# Altium integrated library Actel IGLOO.IntLib: 429 symbols (part 18 of 47)
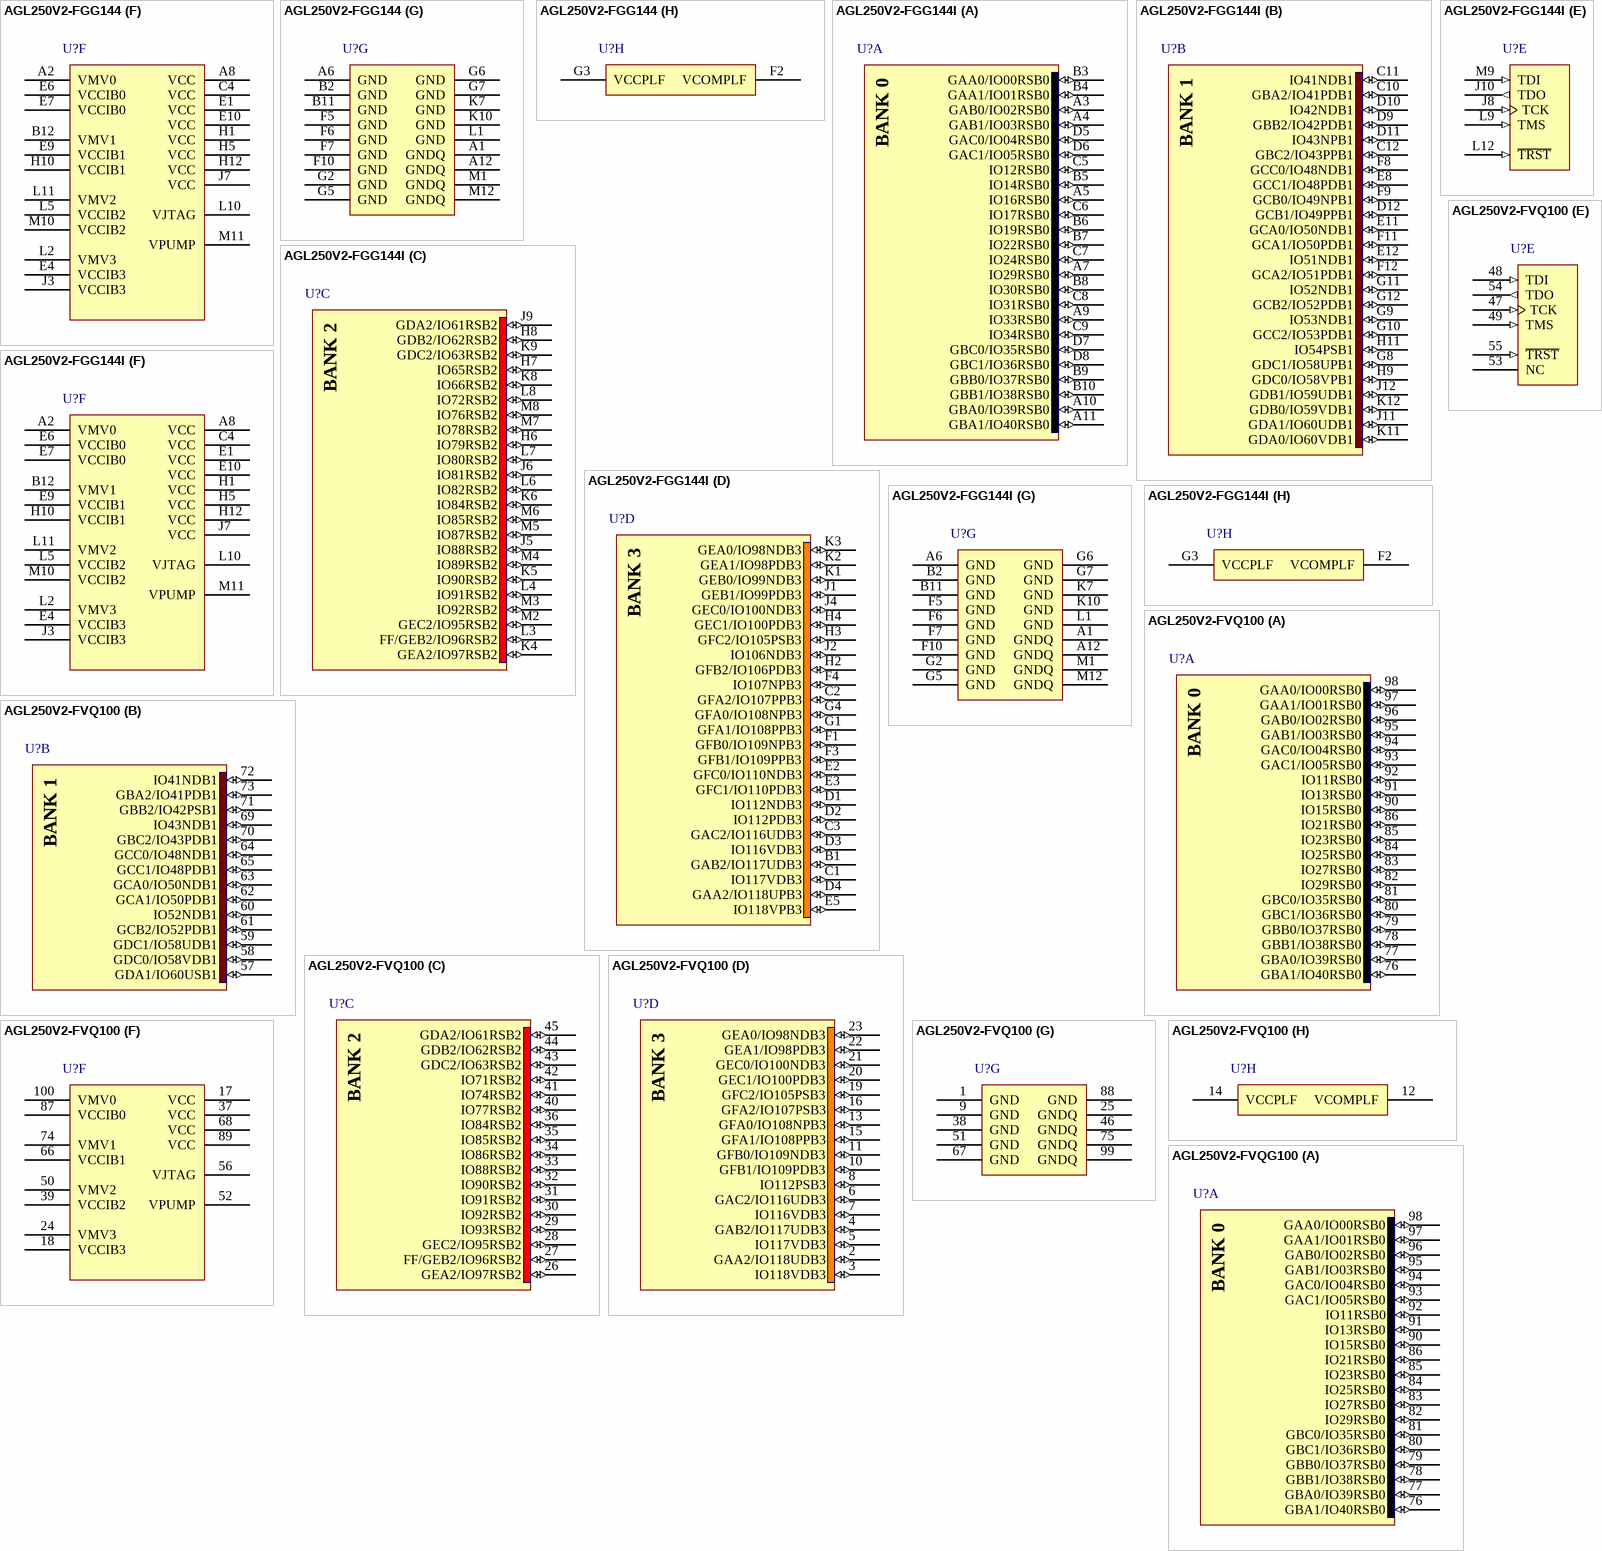
[diagram p365: symbols AGL250V2-FGG144 to AGL250V2-FVQG100]

## AGL250V2-FGG144
designator U?
IGLOO Low-Power Flash 1.2/1.5V FPGA with Flash*Freeze, 97 User IOs, 250K System Gates, 36Kbits RAM, 1Kbit Flash ROM, 1 PLL, 144-Pin FBGA, Commercial Grade, Pb-Free; Published: 14-Mar-2008; LatestRevisionDate: 11-Dec-2009; LatestRevisionNote: Updated to datasheet version 2.0 Nov-2009.; DatasheetVersion: v2.0, Nov-2009; PackageVersion: ver11.2, Nov-2009; PackageReference: FG144; Publisher: Altium Limited; PackageDescription: 144-Ball Fine Pitch Plastic Ball Grid Array (FG144); Code_JEDEC: MO-192-DAD-1; ComponentLink1Description: IGLOO Datasheet; ComponentLink1URL: http://www.actel.com/documents/IGLOO_DS.pdf; ComponentLink2Description: Package Mechanical Drawings; ComponentLink2URL: http://www.actel.com/documents/PckgMechDrwngs.pdf; ComponentLink3Description: IGLOO Documents; ComponentLink3URL: http://www.actel.com/products/igloo/docs.aspx; ComponentLink4Description: Actel.com Home; ComponentLink4URL: http://www.actel.com/
footprint FG144 (BGA, 144-Leads, Body 13x13mm, Pitch 1mm)
signal-integrity model AGL250-FG144 (IGLOO)
part A pins: A3 GAB0/IO02RSB0 (io), A4 GAB1/IO03RSB0 (io), A5 IO16RSB0 (io), A7 IO29RSB0 (io), A9 IO33RSB0 (io), A10 GBA0/IO39RSB0 (io), A11 GBA1/IO40RSB0 (io), B3 GAA0/IO00RSB0 (io), B4 GAA1/IO01RSB0 (io), B5 IO14RSB0 (io), B6 IO19RSB0 (io), B7 IO22RSB0 (io), B8 IO30RSB0 (io), B9 GBB0/IO37RSB0 (io), B10 GBB1/IO38RSB0 (io), C5 IO12RSB0 (io), C6 IO17RSB0 (io), C7 IO24RSB0 (io), C8 IO31RSB0 (io), C9 IO34RSB0 (io), D5 GAC0/IO04RSB0 (io), D6 GAC1/IO05RSB0 (io), D7 GBC0/IO35RSB0 (io), D8 GBC1/IO36RSB0 (io)
part B pins: C10 GBA2/IO41PDB1 (io), C11 IO41NDB1 (io), C12 GBC2/IO43PPB1 (io), D9 GBB2/IO42PDB1 (io), D10 IO42NDB1 (io), D11 IO43NPB1 (io), D12 GCB1/IO49PPB1 (io), E8 GCC1/IO48PDB1 (io), E11 GCA0/IO50NDB1 (io), E12 IO51NDB1 (io), F8 GCC0/IO48NDB1 (io), F9 GCB0/IO49NPB1 (io), F11 GCA1/IO50PDB1 (io), F12 GCA2/IO51PDB1 (io), G8 GDC1/IO58UPB1 (io), G9 IO53NDB1 (io), G10 GCC2/IO53PDB1 (io), G11 IO52NDB1 (io), G12 GCB2/IO52PDB1 (io), H9 GDC0/IO58VPB1 (io), H11 IO54PSB1 (io), J11 GDA1/IO60UDB1 (io), J12 GDB1/IO59UDB1 (io), K11 GDA0/IO60VDB1 (io), K12 GDB0/IO59VDB1 (io)
part C pins: H6 IO79RSB2 (io), H7 IO65RSB2 (io), H8 GDB2/IO62RSB2 (io), J5 IO88RSB2 (io), J6 IO81RSB2 (io), J9 GDA2/IO61RSB2 (io), K4 GEA2/IO97RSB2 (io), K5 IO90RSB2 (io), K6 IO84RSB2 (io), K8 IO66RSB2 (io), K9 GDC2/IO63RSB2 (io), L3 FF/GEB2/IO96RSB2 (io), L4 IO91RSB2 (io), L6 IO82RSB2 (io), L7 IO80RSB2 (io), L8 IO72RSB2 (io), M2 GEC2/IO95RSB2 (io), M3 IO92RSB2 (io), M4 IO89RSB2 (io), M5 IO87RSB2 (io), M6 IO85RSB2 (io), M7 IO78RSB2 (io), M8 IO76RSB2 (io)
part D pins: B1 GAB2/IO117UDB3 (io), C1 IO117VDB3 (io), C2 GFA2/IO107PPB3 (io), C3 GAC2/IO116UDB3 (io), D1 IO112NDB3 (io), D2 IO112PDB3 (io), D3 IO116VDB3 (io), D4 GAA2/IO118UPB3 (io), E2 GFC0/IO110NDB3 (io), E3 GFC1/IO110PDB3 (io), E5 IO118VPB3 (io), F1 GFB0/IO109NPB3 (io), F3 GFB1/IO109PPB3 (io), F4 IO107NPB3 (io), G1 GFA1/IO108PPB3 (io), G4 GFA0/IO108NPB3 (io), H2 GFB2/IO106PDB3 (io), H3 GFC2/IO105PSB3 (io), H4 GEC1/IO100PDB3 (io), J1 GEB1/IO99PDB3 (io), J2 IO106NDB3 (io), J4 GEC0/IO100NDB3 (io), K1 GEB0/IO99NDB3 (io), K2 GEA1/IO98PDB3 (io), K3 GEA0/IO98NDB3 (io)
part E pins: J8 TCK (in), J10 TDO (out), L9 TMS (in), L12 ~{TRST} (in), M9 TDI (in)
part F pins: A2 VMV0 (power), A8 VCC (power), B12 VMV1 (power), C4 VCC (power), E1 VCC (power), E4 VCCIB3 (power), E6 VCCIB0 (power), E7 VCCIB0 (power), E9 VCCIB1 (power), E10 VCC (power), H1 VCC (power), H5 VCC (power), H10 VCCIB1 (power), H12 VCC (power), J3 VCCIB3 (power), J7 VCC (power), L2 VMV3 (power), L5 VCCIB2 (power), L10 VJTAG (power), L11 VMV2 (power), M10 VCCIB2 (power), M11 VPUMP (power)
part G pins: A1 GNDQ (power), A6 GND (power), A12 GNDQ (power), B2 GND (power), B11 GND (power), F5 GND (power), F6 GND (power), F7 GND (power), F10 GND (power), G2 GND (power), G5 GND (power), G6 GND (power), G7 GND (power), K7 GND (power), K10 GND (power), L1 GND (power), M1 GNDQ (power), M12 GNDQ (power)
part H pins: F2 VCOMPLF (power), G3 VCCPLF (power)
part A text: BANK 0
part B text: BANK 1
part C text: BANK 2
part D text: BANK 3

## AGL250V2-FGG144I
designator U?
IGLOO Low-Power Flash 1.2/1.5V FPGA with Flash*Freeze, 97 User IOs, 250K System Gates, 36Kbits RAM, 1Kbit Flash ROM, 1 PLL, 144-Pin FBGA, Industrial Grade, Pb-Free; Published: 14-Mar-2008; LatestRevisionDate: 11-Dec-2009; LatestRevisionNote: Updated to datasheet version 2.0 Nov-2009.; DatasheetVersion: v2.0, Nov-2009; PackageVersion: ver11.2, Nov-2009; PackageReference: FG144; Publisher: Altium Limited; PackageDescription: 144-Ball Fine Pitch Plastic Ball Grid Array (FG144); Code_JEDEC: MO-192-DAD-1; ComponentLink1Description: IGLOO Datasheet; ComponentLink1URL: http://www.actel.com/documents/IGLOO_DS.pdf; ComponentLink2Description: Package Mechanical Drawings; ComponentLink2URL: http://www.actel.com/documents/PckgMechDrwngs.pdf; ComponentLink3Description: IGLOO Documents; ComponentLink3URL: http://www.actel.com/products/igloo/docs.aspx; ComponentLink4Description: Actel.com Home; ComponentLink4URL: http://www.actel.com/
footprint FG144 (BGA, 144-Leads, Body 13x13mm, Pitch 1mm)
signal-integrity model AGL250-FG144 (IGLOO)
part A pins: A3 GAB0/IO02RSB0 (io), A4 GAB1/IO03RSB0 (io), A5 IO16RSB0 (io), A7 IO29RSB0 (io), A9 IO33RSB0 (io), A10 GBA0/IO39RSB0 (io), A11 GBA1/IO40RSB0 (io), B3 GAA0/IO00RSB0 (io), B4 GAA1/IO01RSB0 (io), B5 IO14RSB0 (io), B6 IO19RSB0 (io), B7 IO22RSB0 (io), B8 IO30RSB0 (io), B9 GBB0/IO37RSB0 (io), B10 GBB1/IO38RSB0 (io), C5 IO12RSB0 (io), C6 IO17RSB0 (io), C7 IO24RSB0 (io), C8 IO31RSB0 (io), C9 IO34RSB0 (io), D5 GAC0/IO04RSB0 (io), D6 GAC1/IO05RSB0 (io), D7 GBC0/IO35RSB0 (io), D8 GBC1/IO36RSB0 (io)
part B pins: C10 GBA2/IO41PDB1 (io), C11 IO41NDB1 (io), C12 GBC2/IO43PPB1 (io), D9 GBB2/IO42PDB1 (io), D10 IO42NDB1 (io), D11 IO43NPB1 (io), D12 GCB1/IO49PPB1 (io), E8 GCC1/IO48PDB1 (io), E11 GCA0/IO50NDB1 (io), E12 IO51NDB1 (io), F8 GCC0/IO48NDB1 (io), F9 GCB0/IO49NPB1 (io), F11 GCA1/IO50PDB1 (io), F12 GCA2/IO51PDB1 (io), G8 GDC1/IO58UPB1 (io), G9 IO53NDB1 (io), G10 GCC2/IO53PDB1 (io), G11 IO52NDB1 (io), G12 GCB2/IO52PDB1 (io), H9 GDC0/IO58VPB1 (io), H11 IO54PSB1 (io), J11 GDA1/IO60UDB1 (io), J12 GDB1/IO59UDB1 (io), K11 GDA0/IO60VDB1 (io), K12 GDB0/IO59VDB1 (io)
part C pins: H6 IO79RSB2 (io), H7 IO65RSB2 (io), H8 GDB2/IO62RSB2 (io), J5 IO88RSB2 (io), J6 IO81RSB2 (io), J9 GDA2/IO61RSB2 (io), K4 GEA2/IO97RSB2 (io), K5 IO90RSB2 (io), K6 IO84RSB2 (io), K8 IO66RSB2 (io), K9 GDC2/IO63RSB2 (io), L3 FF/GEB2/IO96RSB2 (io), L4 IO91RSB2 (io), L6 IO82RSB2 (io), L7 IO80RSB2 (io), L8 IO72RSB2 (io), M2 GEC2/IO95RSB2 (io), M3 IO92RSB2 (io), M4 IO89RSB2 (io), M5 IO87RSB2 (io), M6 IO85RSB2 (io), M7 IO78RSB2 (io), M8 IO76RSB2 (io)
part D pins: B1 GAB2/IO117UDB3 (io), C1 IO117VDB3 (io), C2 GFA2/IO107PPB3 (io), C3 GAC2/IO116UDB3 (io), D1 IO112NDB3 (io), D2 IO112PDB3 (io), D3 IO116VDB3 (io), D4 GAA2/IO118UPB3 (io), E2 GFC0/IO110NDB3 (io), E3 GFC1/IO110PDB3 (io), E5 IO118VPB3 (io), F1 GFB0/IO109NPB3 (io), F3 GFB1/IO109PPB3 (io), F4 IO107NPB3 (io), G1 GFA1/IO108PPB3 (io), G4 GFA0/IO108NPB3 (io), H2 GFB2/IO106PDB3 (io), H3 GFC2/IO105PSB3 (io), H4 GEC1/IO100PDB3 (io), J1 GEB1/IO99PDB3 (io), J2 IO106NDB3 (io), J4 GEC0/IO100NDB3 (io), K1 GEB0/IO99NDB3 (io), K2 GEA1/IO98PDB3 (io), K3 GEA0/IO98NDB3 (io)
part E pins: J8 TCK (in), J10 TDO (out), L9 TMS (in), L12 ~{TRST} (in), M9 TDI (in)
part F pins: A2 VMV0 (power), A8 VCC (power), B12 VMV1 (power), C4 VCC (power), E1 VCC (power), E4 VCCIB3 (power), E6 VCCIB0 (power), E7 VCCIB0 (power), E9 VCCIB1 (power), E10 VCC (power), H1 VCC (power), H5 VCC (power), H10 VCCIB1 (power), H12 VCC (power), J3 VCCIB3 (power), J7 VCC (power), L2 VMV3 (power), L5 VCCIB2 (power), L10 VJTAG (power), L11 VMV2 (power), M10 VCCIB2 (power), M11 VPUMP (power)
part G pins: A1 GNDQ (power), A6 GND (power), A12 GNDQ (power), B2 GND (power), B11 GND (power), F5 GND (power), F6 GND (power), F7 GND (power), F10 GND (power), G2 GND (power), G5 GND (power), G6 GND (power), G7 GND (power), K7 GND (power), K10 GND (power), L1 GND (power), M1 GNDQ (power), M12 GNDQ (power)
part H pins: F2 VCOMPLF (power), G3 VCCPLF (power)
part A text: BANK 0
part B text: BANK 1
part C text: BANK 2
part D text: BANK 3

## AGL250V2-FVQ100
designator U?
IGLOO Low-Power Flash 1.2/1.5V FPGA with Flash*Freeze, 68 User IOs, 250K System Gates, 36Kbits RAM, 1Kbit Flash ROM, 1 PLL, 100-Pin TQFP, F Speed Grade, Commercial Grade; ComponentAvailability: F speed grade removed in ver1.5, Apr-2009 datasheet.; Published: 14-Mar-2008; DatasheetVersion: v1.2, Feb-2008; PackageVersion: ver11.2, Nov-2009; PackageReference: VQ100; Publisher: Altium Limited; PackageDescription: 100-Pin Plastic Quad Flat Pack (VQ100); Code_JEDEC: MS-026-AED; ComponentLink1Description: IGLOO Datasheet; ComponentLink1URL: http://www.actel.com/documents/IGLOO_DS.pdf; ComponentLink2Description: Package Mechanical Drawings; ComponentLink2URL: http://www.actel.com/documents/PckgMechDrwngs.pdf; ComponentLink3Description: IGLOO Documents; ComponentLink3URL: http://www.actel.com/products/igloo/docs.aspx; ComponentLink4Description: Actel.com Home; ComponentLink4URL: http://www.actel.com/
footprint VQ100_N (Thin QFP, 100-Leads, Body 14x14mm, Pitch 0.5mm, IPC Medium Density)
footprint VQ100_L (Thin QFP, 100-Leads, Body 14x14mm, Pitch 0.5mm, IPC High Density)
footprint VQ100_M (Thin QFP, 100-Leads, Body 14x14mm, Pitch 0.5mm, IPC Low Density)
signal-integrity model AGL250-VQ100 (IGLOO)
part A pins: 76 GBA1/IO40RSB0 (io), 77 GBA0/IO39RSB0 (io), 78 GBB1/IO38RSB0 (io), 79 GBB0/IO37RSB0 (io), 80 GBC1/IO36RSB0 (io), 81 GBC0/IO35RSB0 (io), 82 IO29RSB0 (io), 83 IO27RSB0 (io), 84 IO25RSB0 (io), 85 IO23RSB0 (io), 86 IO21RSB0 (io), 90 IO15RSB0 (io), 91 IO13RSB0 (io), 92 IO11RSB0 (io), 93 GAC1/IO05RSB0 (io), 94 GAC0/IO04RSB0 (io), 95 GAB1/IO03RSB0 (io), 96 GAB0/IO02RSB0 (io), 97 GAA1/IO01RSB0 (io), 98 GAA0/IO00RSB0 (io)
part B pins: 57 GDA1/IO60USB1 (io), 58 GDC0/IO58VDB1 (io), 59 GDC1/IO58UDB1 (io), 60 IO52NDB1 (io), 61 GCB2/IO52PDB1 (io), 62 GCA1/IO50PDB1 (io), 63 GCA0/IO50NDB1 (io), 64 GCC0/IO48NDB1 (io), 65 GCC1/IO48PDB1 (io), 69 IO43NDB1 (io), 70 GBC2/IO43PDB1 (io), 71 GBB2/IO42PSB1 (io), 72 IO41NDB1 (io), 73 GBA2/IO41PDB1 (io)
part C pins: 26 GEA2/IO97RSB2 (io), 27 FF/GEB2/IO96RSB2 (io), 28 GEC2/IO95RSB2 (io), 29 IO93RSB2 (io), 30 IO92RSB2 (io), 31 IO91RSB2 (io), 32 IO90RSB2 (io), 33 IO88RSB2 (io), 34 IO86RSB2 (io), 35 IO85RSB2 (io), 36 IO84RSB2 (io), 40 IO77RSB2 (io), 41 IO74RSB2 (io), 42 IO71RSB2 (io), 43 GDC2/IO63RSB2 (io), 44 GDB2/IO62RSB2 (io), 45 GDA2/IO61RSB2 (io)
part D pins: 2 GAA2/IO118UDB3 (io), 3 IO118VDB3 (io), 4 GAB2/IO117UDB3 (io), 5 IO117VDB3 (io), 6 GAC2/IO116UDB3 (io), 7 IO116VDB3 (io), 8 IO112PSB3 (io), 10 GFB1/IO109PDB3 (io), 11 GFB0/IO109NDB3 (io), 13 GFA0/IO108NPB3 (io), 15 GFA1/IO108PPB3 (io), 16 GFA2/IO107PSB3 (io), 19 GFC2/IO105PSB3 (io), 20 GEC1/IO100PDB3 (io), 21 GEC0/IO100NDB3 (io), 22 GEA1/IO98PDB3 (io), 23 GEA0/IO98NDB3 (io)
part E pins: 47 TCK (in), 48 TDI (in), 49 TMS (in), 53 NC, 54 TDO (out), 55 ~{TRST} (in)
part F pins: 17 VCC (power), 18 VCCIB3 (power), 24 VMV3 (power), 37 VCC (power), 39 VCCIB2 (power), 50 VMV2 (power), 52 VPUMP (power), 56 VJTAG (power), 66 VCCIB1 (power), 68 VCC (power), 74 VMV1 (power), 87 VCCIB0 (power), 89 VCC (power), 100 VMV0 (power)
part G pins: 1 GND (power), 9 GND (power), 25 GNDQ (power), 38 GND (power), 46 GNDQ (power), 51 GND (power), 67 GND (power), 75 GNDQ (power), 88 GND (power), 99 GNDQ (power)
part H pins: 12 VCOMPLF (power), 14 VCCPLF (power)
part A text: BANK 0
part B text: BANK 1
part C text: BANK 2
part D text: BANK 3

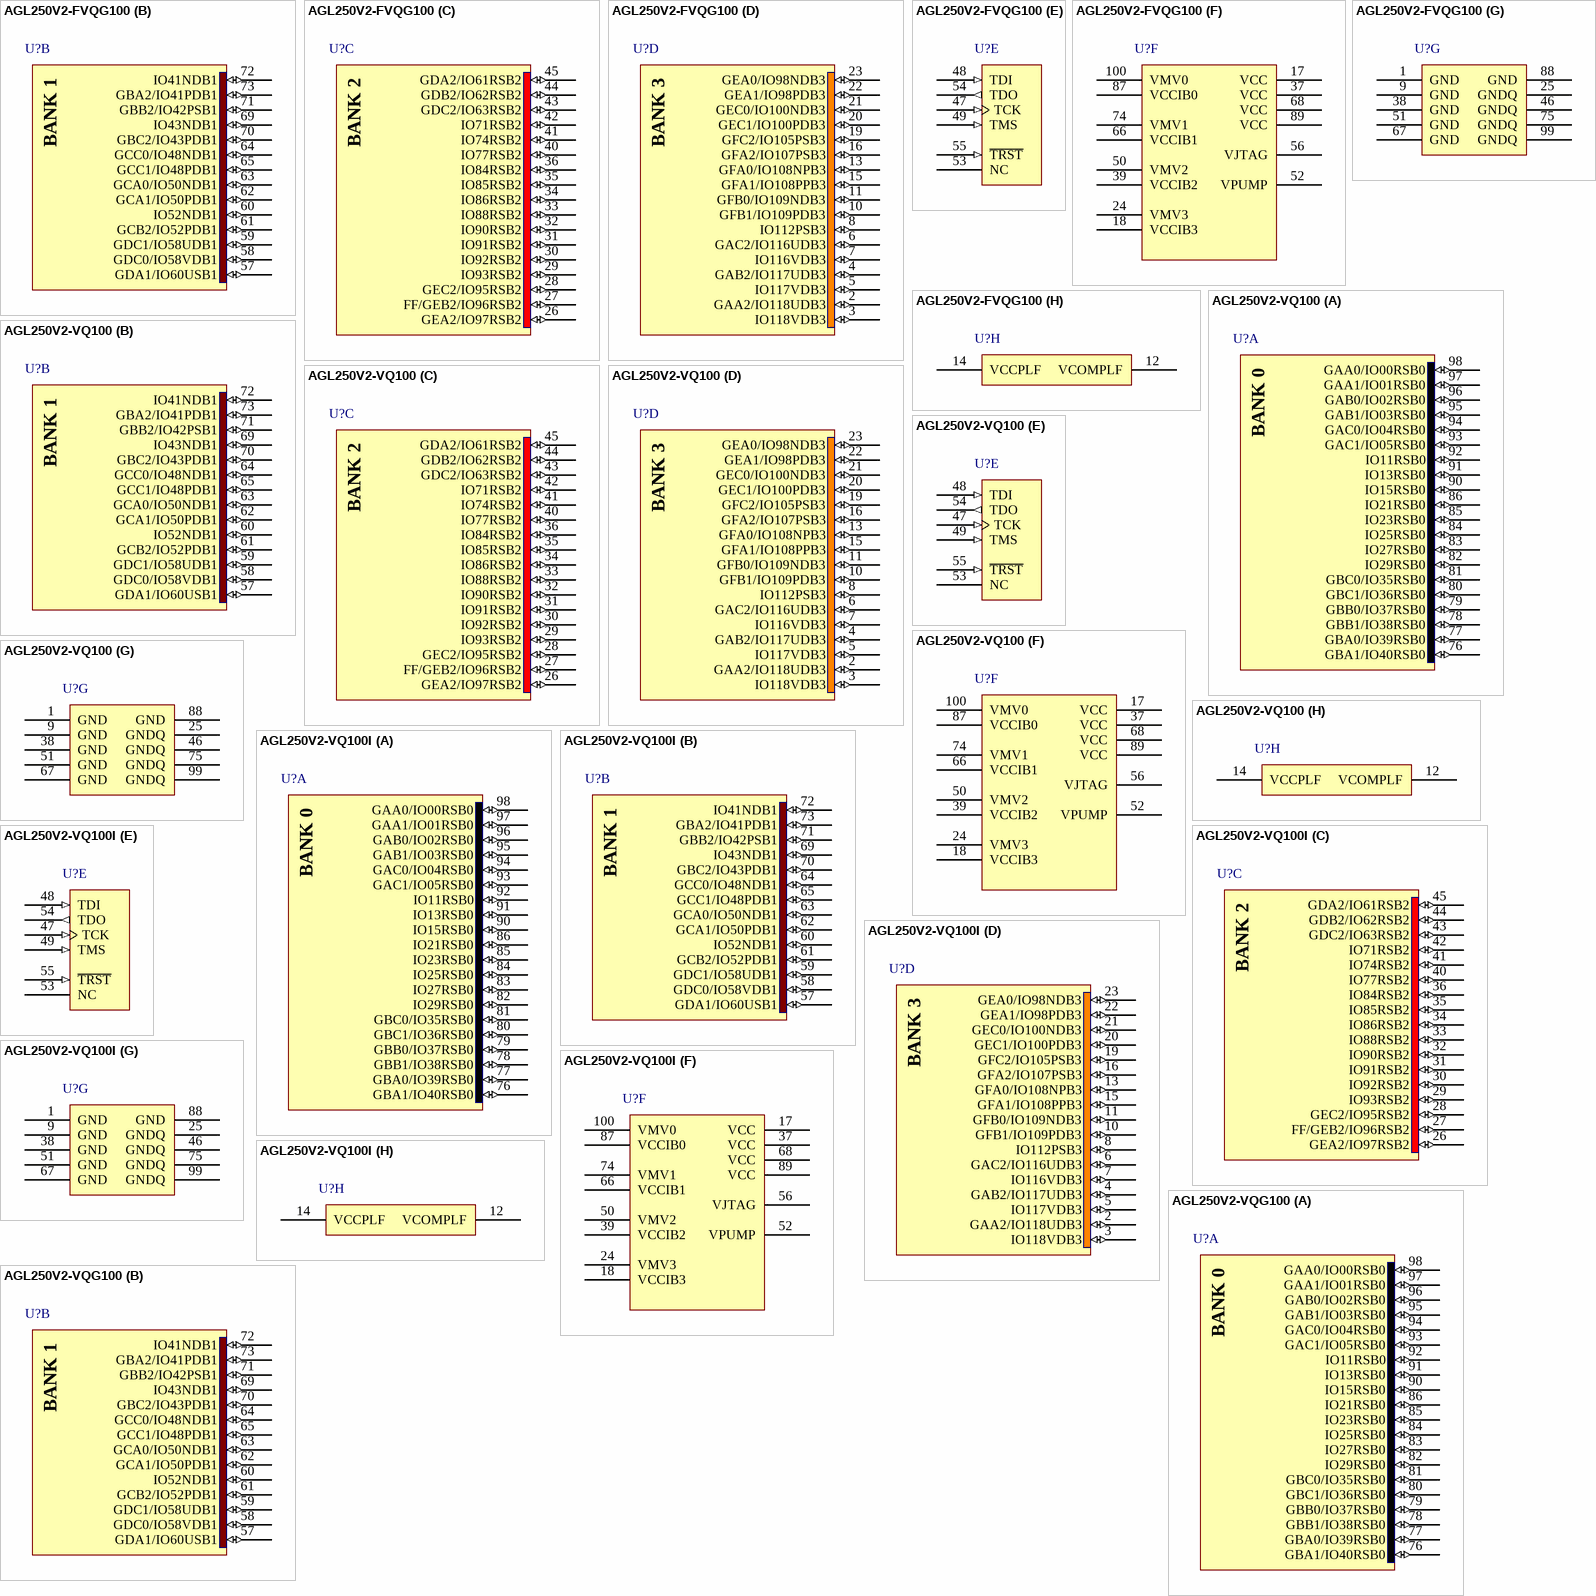
[diagram p56: symbols AGL250V2-FVQG100 to AGL250V2-VQG100]